# Altium footprint library components.PcbLib: 32 footprints (part 2 of 2)
Each footprint in its own frame and in the unit in brackets; x right, y up, seen from the top. Pads: shape width x height; smd on the part's side, far side on the other; paste and mask are expansions set on the pad; w line width, h text height; cw(c..) or ccw(c..) is an arc to the next point about the centre after c.
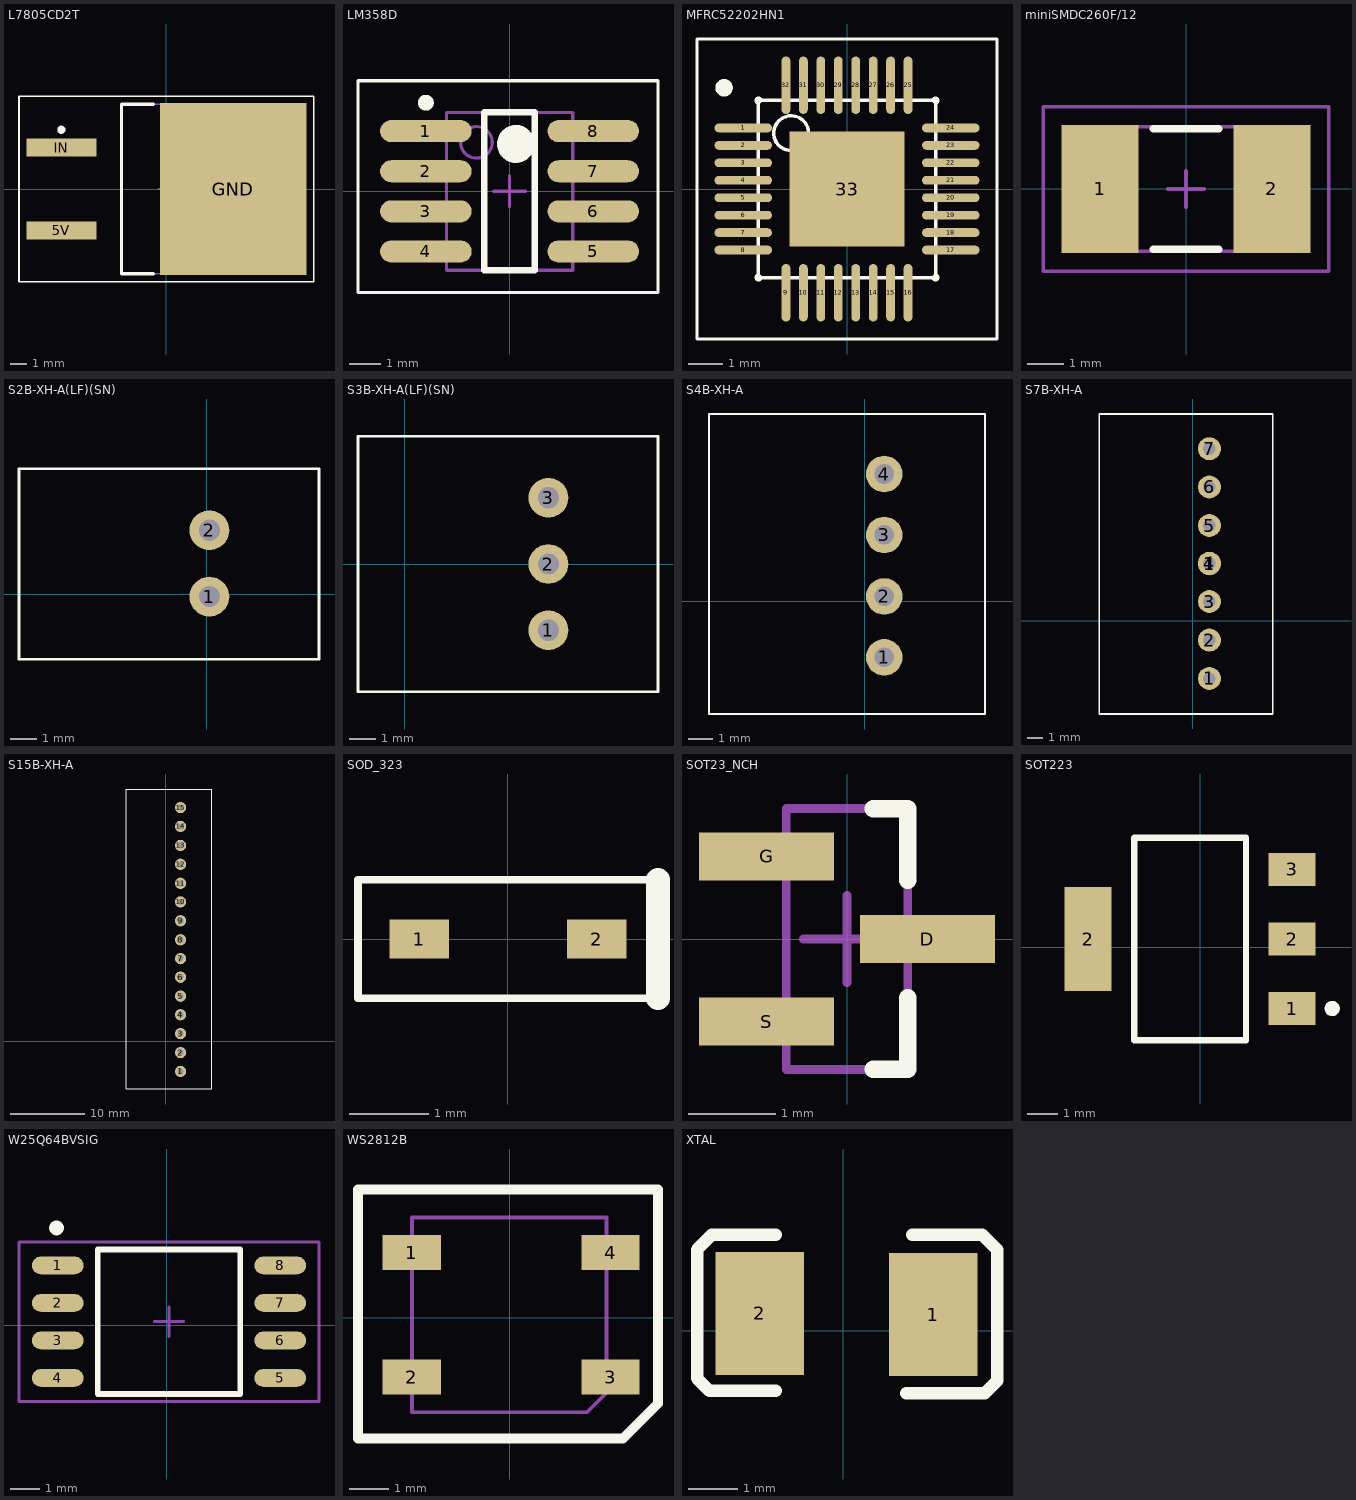
[diagram p1: the footprints below, top view; thin cyan lines are the x and y axes]

## L7805CD2T [mm] "D2-PAK, 3-Pads, Body 9.4x10.4mm (max), IPC Low Density"
height 4.6
pads (3):
  rect 4.3x1.1 smd: 5V(-6.45,-2.54) IN(-6.45,2.54)
  rect 9x10.55 smd: GND(4.1,0)
Top Overlay:
  circle w0.25: c-6.45,3.64 r0.125
  lines w0.1: -9.05,-5.7 -9.05,5.7 9.05,5.7 9.05,-5.7 -9.05,-5.7
  lines w0.2: -0.8,-5.2 -2.75,-5.2 -2.75,5.2 -0.8,5.2
Mechanical 13:
  lines w0.1: -2.75,-5.2 -2.75,5.2 6.6,5.2 6.6,-5.2 -2.75,-5.2
Mechanical 15:
  lines w0.1: -0.5,0 0.5,0 ; 0,-0.5 0,0.5
3D body: height 4.6, standoff 0.23, extent -2.75,-5.2 6.6,5.2

## LM358D [mm] "SOIC, 8-Leads, Body 5.0x4.0mm (max), Pitch 1.27mm, IPC Low Density"
height 1.75
pads (8):
  oval 2.9x0.7 smd: 1(-2.65,1.905) 2(-2.65,0.635) 3(-2.65,-0.635) 4(-2.65,-1.905) 5(2.65,-1.905) 6(2.65,-0.635) 7(2.65,0.635) 8(2.65,1.905)
Top Overlay:
  circle w0.6: c0.2,1.5 r0.3
  circle w0.25: c-2.65,2.805 r0.125
  lines w0.1: -4.8,-3.2 4.7,-3.2 4.7,3.5 -4.8,3.5 -4.8,-3.2
  lines w0.2: -0.8,-2.5 0.8,-2.5 0.8,2.5 -0.8,2.5 -0.8,-2.5
Mechanical 13:
  circle w0.1: c-1.05,1.55 r0.5
  lines w0.1: -2,-2.5 2,-2.5 2,2.5 -2,2.5 -2,-2.5
Mechanical 15:
  lines w0.1: -0.5,0 0.5,0 ; 0,-0.5 0,0.5
3D body: height 1.75, standoff 0.35, extent -2,-2.5 2,2.5

## MFRC52202HN1 [mm] "QFN, 32-Leads, Body 5.1x5.1mm (max), Pitch 0.50mm, IPC Low Density"
height 1
pads (33):
  oval 1.65x0.25 smd: 1(-2.975,1.75) 2(-2.975,1.25) 3(-2.975,0.75) 4(-2.975,0.25) 5(-2.975,-0.25) 6(-2.975,-0.75) 7(-2.975,-1.25) 8(-2.975,-1.75) 17(2.975,-1.75) 18(2.975,-1.25) 19(2.975,-0.75) 20(2.975,-0.25) 21(2.975,0.25) 22(2.975,0.75) 23(2.975,1.25) 24(2.975,1.75)
  oval 0.25x1.65 smd: 9(-1.75,-2.975) 10(-1.25,-2.975) 11(-0.75,-2.975) 12(-0.25,-2.975) 13(0.25,-2.975) 14(0.75,-2.975) 15(1.25,-2.975) 16(1.75,-2.975) 25(1.75,2.975) 26(1.25,2.975) 27(0.75,2.975) 28(0.25,2.975) 29(-0.25,2.975) 30(-0.75,2.975) 31(-1.25,2.975) 32(-1.75,2.975)
  rect 3.3x3.3 smd: 33(0,0)
Top Overlay:
  circle w0.1: c-1.6,1.6 r0.5
  circle w0.25: c-3.525,2.9 r0.125
  lines w0.1: -0.5,0 0.5,0 ; 0,-0.5 0,0.5 ; -4.3,-4.3 4.3,-4.3 4.3,4.3 -4.3,4.3 -4.3,-4.3 ; -2.55,-2.55 2.55,-2.55 2.55,2.55 -2.55,2.55 -2.55,-2.55
  lines w0.2: -2.55,-2.525 -2.55,-2.55 -2.525,-2.55 ; -2.55,2.525 -2.55,2.55 -2.525,2.55 ; 2.525,-2.55 2.55,-2.55 2.55,-2.525 ; 2.525,2.55 2.55,2.55 2.55,2.525
3D body: height 1, standoff 0.05, extent -2.55,-2.55 2.55,2.55

## miniSMDC260F/12 [mm] "Chip Capacitor, 2-Leads, Body 5.3x3.2mm, IPC Low Density"
height 1.52
pads (2):
  rect 2.1x3.5 smd: 1(-2.35,0) 2(2.35,0)
Top Overlay:
  lines w0.2: -0.9,-1.65 0.9,-1.65 ; -0.9,1.65 0.9,1.65
Mechanical 13:
  lines w0.1: -2.75,-1.705 2.75,-1.705 2.75,1.705 -2.75,1.705 -2.75,-1.705
Mechanical 15:
  lines w0.1: -0.5,0 0.5,0 ; 0,-0.5 0,0.5 ; -3.9,-2.25 3.9,-2.25 3.9,2.25 -3.9,2.25 -3.9,-2.25
3D body: height 1.52, standoff 0, extent -2.75,-1.705 2.75,1.705

## PCBComponent_1 - duplicate [mm]

## S2B-XH-A(LF)(SN) [mil]
pads (2):
  round 60 hole 32: 1(3.94,-3.94) 2(3.94,96.06)
Top Overlay:
  lines w3.94: -283.46,-98.43 -283.46,188.98 169.29,188.98 169.29,-98.43 -283.46,-98.43

## S3B-XH-A(LF)(SN) [mil]
pads (3):
  round 60 hole 32: 1(216.54,-100) 2(216.54,0) 3(216.54,100)
Top Overlay:
  lines w3.94: -70.87,-192.91 381.89,-192.91 381.89,192.91 -70.87,192.91 -70.87,-192.91

## S4B-XH-A [mil]
pads (4):
  round 60 hole 32: 1(31.5,-92.13) 2(31.5,7.87) 3(31.5,108.66) 4(31.5,208.66)
Top Overlay:
  lines w3.94: -255.91,-185.04 -255.91,307.09 196.85,307.09 196.85,-185.04 -255.91,-185.04

## S7B-XH-A [mil]
pads (8):
  round 60 hole 32: 1(43.31,-151.18) 1(43.31,148.03) 2(43.31,-51.18) 3(43.31,49.61) 4(43.31,149.61) 5(43.31,248.03) 6(43.31,348.82) 7(43.31,448.82)
Top Overlay:
  lines w3.94: -244.09,-244.09 208.66,-244.09 208.66,539.37 -244.09,539.37 -244.09,-244.09

## S15B-XH-A [mil]
pads (15):
  round 60 hole 32: 1(78.74,-159.06) 2(78.74,-59.06) 3(78.74,41.73) 4(78.74,141.73) 5(78.74,240.16) 6(78.74,340.94) 7(78.74,439.37) 8(78.74,539.37) 9(78.74,640.16) 10(78.74,740.16) 11(78.74,838.58) 12(78.74,939.37) 13(78.74,1039.37) 14(78.74,1140.16) 15(78.74,1240.16)
Top Overlay:
  lines w3.94: -208.66,-251.97 244.09,-251.97 244.09,1338.58 -208.66,1338.58 -208.66,-251.97

## SOD_323 [mm]
pads (2):
  rect 0.75x0.5 smd: 1(-1.125,0) 2(1.125,0)
Top Overlay:
  lines w0.1: 1.9,-0.75 -1.9,-0.75 -1.9,0 -1.9,0.75 1.9,0.75
  lines w0.3: 1.9,-0.75 1.9,0.75

## SOT23_NCH [mm]
pads (3):
  rect 1.55x0.55 smd: D(0.925,0) G(-0.925,0.95) S(-0.925,-0.95)
Top Overlay:
  lines w0.2: 0.3,-1.5 0.7,-1.5 0.7,-0.675 ; 0.3,1.5 0.7,1.5 0.7,0.675
Mechanical 13:
  lines w0.1: -0.7,-1.5 -0.7,1.5 0.7,1.5 0.7,-1.5 -0.7,-1.5
Mechanical 15:
  lines w0.1: -0.5,0 0.5,0 ; 0,-0.5 0,0.5
3D body: height 1.1, standoff 0.05, extent -0.7,-1.5 0.7,1.5

## SOT223 [mm]
pads (4):
  rect 1.55x1.1 smd: 1(3.045,-2.031) 2(3.045,0.269) 3(3.045,2.569)
  rect 1.55x3.45 smd: 2(-3.705,0.269)
Top Overlay:
  circle w0.25: c4.37,-2.031 r0.125
  lines w0.2: -2.18,-3.081 -2.18,3.619 1.52,3.619 1.52,-3.081 -2.18,-3.081
3D body: height 4, standoff 0, extent -2.109,-3.009 1.491,3.591

## W25Q64BVSIG [mm]
pads (8):
  oval 1.75x0.6 smd: 1(-3.697,2.033) 2(-3.697,0.763) 3(-3.697,-0.507) 4(-3.697,-1.777) 5(3.839,-1.777) 6(3.839,-0.507) 7(3.839,0.763) 8(3.839,2.033)
Top Overlay:
  circle w0.25: c-3.737,3.303 r0.125
  lines w0.2: -2.342,-2.322 -2.342,2.578 2.484,2.578 2.484,-2.322 -2.342,-2.322
Mechanical 15:
  lines w0.1: -0.429,0.128 0.571,0.128 ; 0.071,-0.372 0.071,0.628 ; -5.009,-2.572 -5.009,2.828 5.151,2.828 5.151,-2.572 -5.009,-2.572
3D body: height 0.8, standoff 0, extent -2.291,-2.336 2.51,2.516

## WS2812B [mm]
pads (4):
  rect 1.5x0.9 smd: 1(-2.519,1.678) 2(-2.519,-1.522) 3(2.581,-1.522) 4(2.581,1.678)
Top Overlay:
  lines w0.254: -3.9,-3.1 -3.9,3.3 3.8,3.3 3.8,-2.2 2.9,-3.1 -3.9,-3.1
Mechanical 13:
  lines w0.1: -2.519,-2.422 -2.519,2.578 2.481,2.578 2.481,-1.922 1.981,-2.422 -2.519,-2.422
3D body: height 0.6, standoff 0.01, extent -2.519,-2.422 2.481,2.578

## XTAL [mm]
pads (2):
  rect 1.8x2.5 smd: 1(1.834,0.329) 2(-1.691,0.354)
Top Overlay:
  lines w0.254: -1.366,-1.221 -2.713,-1.221 -2.967,-0.967 -2.967,1.651 -2.664,1.954 -1.366,1.954 ; 1.284,-1.27 2.875,-1.27 3.129,-1.016 3.129,1.651 2.875,1.905 2.826,1.954 1.409,1.954
3D body: height 2.54, standoff 0, extent -2.205,-0.889 2.494,1.397